# Altium integrated library Linear Technology Power Management LDO Linear Regulators.IntLib: 2339 symbols (part 73 of 131)
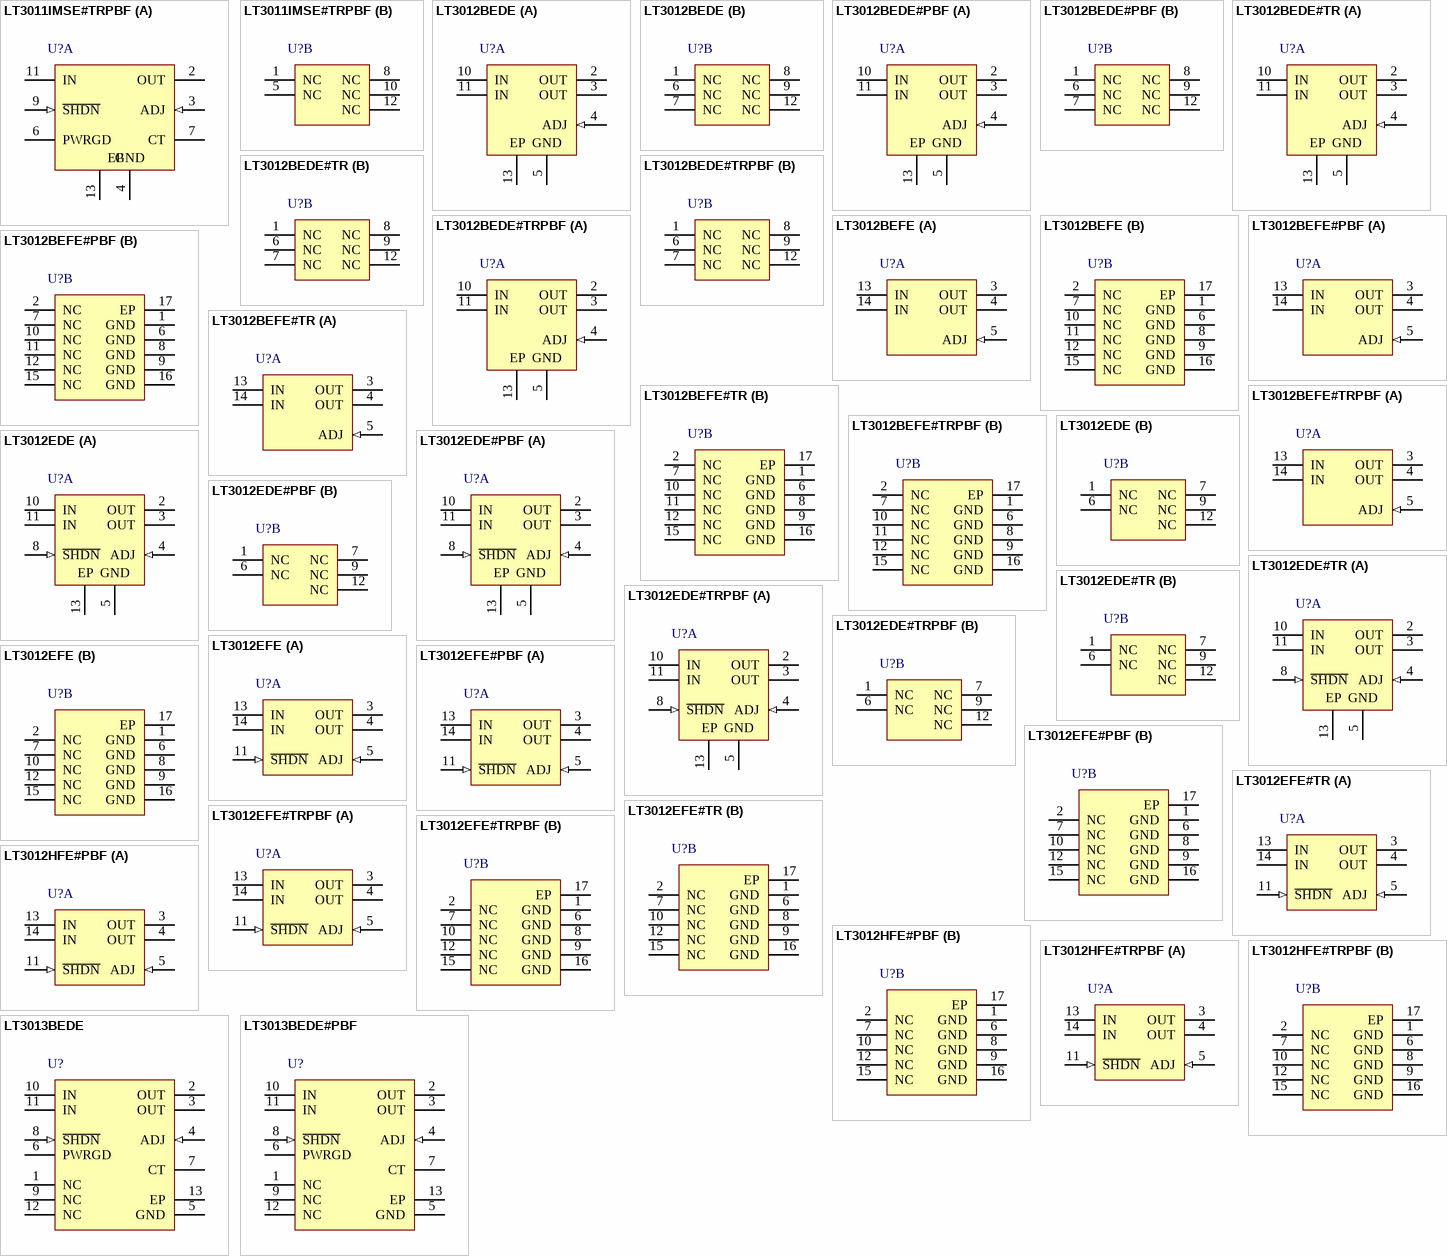
[diagram p141: symbols LT3011IMSE#TRPBF to LT3013BEDE#PBF]

## LT3012HFE#PBF
designator U?
250 mA, Low Dropout Micropower Linear Regulator, 4 to 80 V Vin, Adjustable Vout, 16-pin SOP (FE-16-EPV-BB), -40 to 140 degC, Pb-Free; Manufacturer: Linear Technology; PartNumber: LT3012HFE#PBF; Discrete Pass Element: no; Dropout Voltage(V): 0.4; Iout(mA): 250; Isupply(mA): 0.04; Noise(uV): 100; Number of Outputs: 1; Output Voltage: Adj; PSRR(dB): 75; Vin Max(V): 80; Vin Min(V): 4; Vout Max(V): 60; Vout Min(V): 1.24; DatasheetVersion: Rev. D; PackageVersion: Rev. J, 11/2012; PackageReference: FE-16; PackageDescription: 16-Pin Plastic TSSOP, Body 5 x 4.4 mm, Pitch 0.65 mm; Supplier 1: Digi-Key; Supplier Part Number 1: LT3012HFE#PBF-ND; Supplier 2: Newark; Supplier Part Number 2: 57M7866; RoHS: TRUE; Shutdown Current(uA): 1; Mounting Technology: Surface Mount; ComponentLink1Description: Manufacturer URL; ComponentLink1URL: http://www.linear.com/; ComponentLink2Description: Datasheet; ComponentLink2URL: http://cds.linear.com/docs/en/datasheet/3012fd.pdf; ComponentLink3Description: Package Specification; ComponentLink3URL: http://cds.linear.com/docs/en/packaging/05081663__J_FE16(BB).pdf
footprint LT-FE-16-EPV-BB_N (SOP, 16-Leads, Body 5.1x4.5mm, Pitch 0.65mm, Thermal Pad 3.58x2.94mm, IPC Medium Density)
footprint LT-FE-16-EPV-BB_L (SOP, 16-Leads, Body 5.1x4.5mm, Pitch 0.65mm, Thermal Pad 3.58x2.94mm, IPC High Density)
footprint LT-FE-16-EPV-BB_M (SOP, 16-Leads, Body 5.1x4.5mm, Pitch 0.65mm, Thermal Pad 3.58x2.94mm, IPC Low Density)
part A pins: 3 OUT (power) "Output.The output supplies power to the load. A minimum output capacitor of 3.3uF is required to prevent oscillations. Larger output capacitors will be required for applications with large transient loads to limit peak (See Datasheet)", 4 OUT (power) "Output.The output supplies power to the load. A minimum output capacitor of 3.3uF is required to prevent oscillations. Larger output capacitors will be required for applications with large transient loads to limit peak (See Datasheet)", 5 ADJ (in) "Adjust. This is the input to the error amplifier. This pin is internally clamped to +/-7V. It has a bias current of 30nA which flows into the pin (see curve of ADJ Pin Bias Current vs Temperature in the Typical Performance (See Datasheet)", 11 ~{SHDN} (in) "Shutdown. The S\H\D\N\ pin is used to put the LT3012 into a low power shutdown state. The output will be off when the S\H\D\N\ pin is pulled low. The S\H\D\N\ pin can be driven either by 5V logic or open-collector logic with (See Datasheet)", 13 IN (power) "Input. Power is supplied to the device through the IN pin. A bypass capacitor is required on this pin if the device is more than six inches away from the main input filter capacitor. In general, the output impedance of a (See Datasheet)", 14 IN (power) "Input. Power is supplied to the device through the IN pin. A bypass capacitor is required on this pin if the device is more than six inches away from the main input filter capacitor. In general, the output impedance of a (See Datasheet)"
part B pins: 1 GND (power) "Ground. The exposed backside of the package is an electrical connection for GND. As such, to ensure optimum device operation and thermal performance, the exposed pad must be connected directly to pin 5/pin 6 on the PC board.", 2 NC "No Connect. These pins have no internal connection; connecting NC pins to a copper area for heat dissipation provides a small improvement in thermal performance.", 6 GND (power) "Ground. The exposed backside of the package is an electrical connection for GND. As such, to ensure optimum device operation and thermal performance, the exposed pad must be connected directly to pin 5/pin 6 on the PC board.", 7 NC "No Connect. These pins have no internal connection; connecting NC pins to a copper area for heat dissipation provides a small improvement in thermal performance.", 8 GND (power) "Ground. The exposed backside of the package is an electrical connection for GND. As such, to ensure optimum device operation and thermal performance, the exposed pad must be connected directly to pin 5/pin 6 on the PC board.", 9 GND (power) "Ground. The exposed backside of the package is an electrical connection for GND. As such, to ensure optimum device operation and thermal performance, the exposed pad must be connected directly to pin 5/pin 6 on the PC board.", 10 NC "No Connect. These pins have no internal connection; connecting NC pins to a copper area for heat dissipation provides a small improvement in thermal performance.", 12 NC "No Connect. These pins have no internal connection; connecting NC pins to a copper area for heat dissipation provides a small improvement in thermal performance.", 15 NC "No Connect. These pins have no internal connection; connecting NC pins to a copper area for heat dissipation provides a small improvement in thermal performance.", 16 GND (power) "Ground. The exposed backside of the package is an electrical connection for GND. As such, to ensure optimum device operation and thermal performance, the exposed pad must be connected directly to pin 5/pin 6 on the PC board.", 17 EP (power) "Ground. The exposed backside of the package is an electrical connection for GND. As such, to ensure optimum device operation and thermal performance, the exposed pad must be connected directly to pin 5/pin 6 on the PC board."

## LT3012HFE#TRPBF
designator U?
250 mA, Low Dropout Micropower Linear Regulator, 4 to 80 V Vin, Adjustable Vout, 16-pin SOP (FE-16-EPV-BB), -40 to 140 degC, Pb-Free, Tape and Reel; Manufacturer: Linear Technology; PartNumber: LT3012HFE#TRPBF; Discrete Pass Element: no; Dropout Voltage(V): 0.4; Iout(mA): 250; Isupply(mA): 0.04; Noise(uV): 100; Number of Outputs: 1; Output Voltage: Adj; PSRR(dB): 75; Vin Max(V): 80; Vin Min(V): 4; Vout Max(V): 60; Vout Min(V): 1.24; DatasheetVersion: Rev. D; PackageVersion: Rev. J, 11/2012; PackageReference: FE-16; PackageDescription: 16-Pin Plastic TSSOP, Body 5 x 4.4 mm, Pitch 0.65 mm; Supplier 1: Digi-Key; Supplier Part Number 1: LT3012HFE#TRPBF-ND; Supplier 2: Newark; Supplier Part Number 2: 57M7867; Packing: Tape and Reel; RoHS: TRUE; Shutdown Current(uA): 1; Mounting Technology: Surface Mount; ComponentLink1Description: Manufacturer URL; ComponentLink1URL: http://www.linear.com/; ComponentLink2Description: Datasheet; ComponentLink2URL: http://cds.linear.com/docs/en/datasheet/3012fd.pdf; ComponentLink3Description: Package Specification; ComponentLink3URL: http://cds.linear.com/docs/en/packaging/05081663__J_FE16(BB).pdf
footprint LT-FE-16-EPV-BB_N (SOP, 16-Leads, Body 5.1x4.5mm, Pitch 0.65mm, Thermal Pad 3.58x2.94mm, IPC Medium Density)
footprint LT-FE-16-EPV-BB_L (SOP, 16-Leads, Body 5.1x4.5mm, Pitch 0.65mm, Thermal Pad 3.58x2.94mm, IPC High Density)
footprint LT-FE-16-EPV-BB_M (SOP, 16-Leads, Body 5.1x4.5mm, Pitch 0.65mm, Thermal Pad 3.58x2.94mm, IPC Low Density)
part A pins: 3 OUT (power) "Output.The output supplies power to the load. A minimum output capacitor of 3.3uF is required to prevent oscillations. Larger output capacitors will be required for applications with large transient loads to limit peak (See Datasheet)", 4 OUT (power) "Output.The output supplies power to the load. A minimum output capacitor of 3.3uF is required to prevent oscillations. Larger output capacitors will be required for applications with large transient loads to limit peak (See Datasheet)", 5 ADJ (in) "Adjust. This is the input to the error amplifier. This pin is internally clamped to +/-7V. It has a bias current of 30nA which flows into the pin (see curve of ADJ Pin Bias Current vs Temperature in the Typical Performance (See Datasheet)", 11 ~{SHDN} (in) "Shutdown. The S\H\D\N\ pin is used to put the LT3012 into a low power shutdown state. The output will be off when the S\H\D\N\ pin is pulled low. The S\H\D\N\ pin can be driven either by 5V logic or open-collector logic with (See Datasheet)", 13 IN (power) "Input. Power is supplied to the device through the IN pin. A bypass capacitor is required on this pin if the device is more than six inches away from the main input filter capacitor. In general, the output impedance of a (See Datasheet)", 14 IN (power) "Input. Power is supplied to the device through the IN pin. A bypass capacitor is required on this pin if the device is more than six inches away from the main input filter capacitor. In general, the output impedance of a (See Datasheet)"
part B pins: 1 GND (power) "Ground. The exposed backside of the package is an electrical connection for GND. As such, to ensure optimum device operation and thermal performance, the exposed pad must be connected directly to pin 5/pin 6 on the PC board.", 2 NC "No Connect. These pins have no internal connection; connecting NC pins to a copper area for heat dissipation provides a small improvement in thermal performance.", 6 GND (power) "Ground. The exposed backside of the package is an electrical connection for GND. As such, to ensure optimum device operation and thermal performance, the exposed pad must be connected directly to pin 5/pin 6 on the PC board.", 7 NC "No Connect. These pins have no internal connection; connecting NC pins to a copper area for heat dissipation provides a small improvement in thermal performance.", 8 GND (power) "Ground. The exposed backside of the package is an electrical connection for GND. As such, to ensure optimum device operation and thermal performance, the exposed pad must be connected directly to pin 5/pin 6 on the PC board.", 9 GND (power) "Ground. The exposed backside of the package is an electrical connection for GND. As such, to ensure optimum device operation and thermal performance, the exposed pad must be connected directly to pin 5/pin 6 on the PC board.", 10 NC "No Connect. These pins have no internal connection; connecting NC pins to a copper area for heat dissipation provides a small improvement in thermal performance.", 12 NC "No Connect. These pins have no internal connection; connecting NC pins to a copper area for heat dissipation provides a small improvement in thermal performance.", 15 NC "No Connect. These pins have no internal connection; connecting NC pins to a copper area for heat dissipation provides a small improvement in thermal performance.", 16 GND (power) "Ground. The exposed backside of the package is an electrical connection for GND. As such, to ensure optimum device operation and thermal performance, the exposed pad must be connected directly to pin 5/pin 6 on the PC board.", 17 EP (power) "Ground. The exposed backside of the package is an electrical connection for GND. As such, to ensure optimum device operation and thermal performance, the exposed pad must be connected directly to pin 5/pin 6 on the PC board."

## LT3013BEDE
designator U?
250 mA, Low Dropout Micropower Linear Regulator with PWRGD, 4 to 80 V Vin, Adjustable Vout, 12-pin SON (DE-UE-12), -40 to 125 degC; Manufacturer: Linear Technology; PartNumber: LT3013BEDE; Discrete Pass Element: no; Dropout Voltage(V): 0.4; Iout(mA): 250; Isupply(mA): 0.065; Noise(uV): 100; Number of Outputs: 1; Output Voltage: Adj; PSRR(dB): 75; Vin Max(V): 80; Vin Min(V): 4; Vout Max(V): 60; Vout Min(V): 1.24; DatasheetVersion: Rev. E; PackageVersion: Rev. D, 06/2010; PackageReference: DE-UE-12; PackageDescription: 12-Pin Plastic DFN, Body 4 x 3 mm, Pitch 0.5 mm; RoHS: FALSE; Shutdown Current(uA): 1; Mounting Technology: Surface Mount; Code_JEDEC: MO-229; ComponentLink1Description: Manufacturer URL; ComponentLink1URL: http://www.linear.com/; ComponentLink2Description: Datasheet; ComponentLink2URL: http://cds.linear.com/docs/en/datasheet/3013fe.pdf; ComponentLink3Description: Package Specification; ComponentLink3URL: http://cds.linear.com/docs/en/packaging/DFN_12_05-08-1695.pdf
footprint LT-DE-UE-12_V (SON, 12-Leads, Body 4x3mm, Pitch 0.5mm, Thermal Pad 3.3x1.7mm)
pins: 1 NC "No Connect. These pins have no internal connection; connecting NC pins to a copper area for heat dissipation provides a small improvement in thermal performance.", 2 OUT (power) "Output. The output supplies power to the load. A minimum output capacitor of 3.3uF is required to prevent oscillations. Larger output capacitors will be required for applications with large transient loads to limit peak (See Datasheet)", 3 OUT (power) "Output. The output supplies power to the load. A minimum output capacitor of 3.3uF is required to prevent oscillations. Larger output capacitors will be required for applications with large transient loads to limit peak (See Datasheet)", 4 ADJ (in) "Adjust. This is the input to the error amplifier. This pin is internally clamped to +/-7V. It has a bias current of 30nA which fl ows into the pin (see curve of ADJ Pin Bias Current vs Temperature in the Typical Performance (See Datasheet)", 5 GND (power) "Ground. The exposed backside of the package is an electrical connection for GND. As such, to ensure optimum device operation and thermal performance, the exposed pad must be connected directly to Pin 5/Pin 6 on the PC board.", 6 PWRGD (hiz) "Power Good. The PWRGD flag is an open collector flag to indicate that the output voltage has come up to above 90% of the nominal output voltage. There is no internal pull-up on this pin; a pull-up resistor must be used. The (See Datasheet)", 7 CT "Timing Capacitor. The CT pin allows the use of a small capacitor to delay the timing between the point where the output crosses the PWRGD threshold and the PWRGD flag changes to a high impedance state. Current out of this (See Datasheet)", 8 ~{SHDN} (in) "Shutdown. The S\H\D\N\ pin is used to put the LT3013 into a low power shutdown state. The output will be off when the S\H\D\N\ pin is pulled low. The S\H\D\N\ pin can be driven either by 5V logic or open-collector logic with (See Datasheet)", 9 NC "No Connect. These pins have no internal connection; connecting NC pins to a copper area for heat dissipation provides a small improvement in thermal performance.", 10 IN (power) "Input. Power is supplied to the device through the IN pin. A bypass capacitor is required on this pin if the device is more than six inches away from the main input filter capacitor. In general, the output impedance of a (See Datasheet)", 11 IN (power) "Input. Power is supplied to the device through the IN pin. A bypass capacitor is required on this pin if the device is more than six inches away from the main input filter capacitor. In general, the output impedance of a (See Datasheet)", 12 NC "No Connect. These pins have no internal connection; connecting NC pins to a copper area for heat dissipation provides a small improvement in thermal performance.", 13 EP (power) "Ground. The exposed backside of the package is an electrical connection for GND. As such, to ensure optimum device operation and thermal performance, the exposed pad must be connected directly to Pin 5/Pin 6 on the PC board."

## LT3013BEDE#PBF
designator U?
250 mA, Low Dropout Micropower Linear Regulator with PWRGD, 4 to 80 V Vin, Adjustable Vout, 12-pin SON (DE-UE-12), -40 to 125 degC, Pb-Free; Manufacturer: Linear Technology; PartNumber: LT3013BEDE#PBF; Discrete Pass Element: no; Dropout Voltage(V): 0.4; Iout(mA): 250; Isupply(mA): 0.065; Noise(uV): 100; Number of Outputs: 1; Output Voltage: Adj; PSRR(dB): 75; Vin Max(V): 80; Vin Min(V): 4; Vout Max(V): 60; Vout Min(V): 1.24; DatasheetVersion: Rev. E; PackageVersion: Rev. D, 06/2010; PackageReference: DE-UE-12; PackageDescription: 12-Pin Plastic DFN, Body 4 x 3 mm, Pitch 0.5 mm; Supplier 1: Digi-Key; Supplier Part Number 1: LT3013BEDE#PBF-ND; RoHS: TRUE; Shutdown Current(uA): 1; Mounting Technology: Surface Mount; Code_JEDEC: MO-229; ComponentLink1Description: Manufacturer URL; ComponentLink1URL: http://www.linear.com/; ComponentLink2Description: Datasheet; ComponentLink2URL: http://cds.linear.com/docs/en/datasheet/3013fe.pdf; ComponentLink3Description: Package Specification; ComponentLink3URL: http://cds.linear.com/docs/en/packaging/DFN_12_05-08-1695.pdf
footprint LT-DE-UE-12_V (SON, 12-Leads, Body 4x3mm, Pitch 0.5mm, Thermal Pad 3.3x1.7mm)
pins: 1 NC "No Connect. These pins have no internal connection; connecting NC pins to a copper area for heat dissipation provides a small improvement in thermal performance.", 2 OUT (power) "Output. The output supplies power to the load. A minimum output capacitor of 3.3uF is required to prevent oscillations. Larger output capacitors will be required for applications with large transient loads to limit peak (See Datasheet)", 3 OUT (power) "Output. The output supplies power to the load. A minimum output capacitor of 3.3uF is required to prevent oscillations. Larger output capacitors will be required for applications with large transient loads to limit peak (See Datasheet)", 4 ADJ (in) "Adjust. This is the input to the error amplifier. This pin is internally clamped to +/-7V. It has a bias current of 30nA which fl ows into the pin (see curve of ADJ Pin Bias Current vs Temperature in the Typical Performance (See Datasheet)", 5 GND (power) "Ground. The exposed backside of the package is an electrical connection for GND. As such, to ensure optimum device operation and thermal performance, the exposed pad must be connected directly to Pin 5/Pin 6 on the PC board.", 6 PWRGD (hiz) "Power Good. The PWRGD flag is an open collector flag to indicate that the output voltage has come up to above 90% of the nominal output voltage. There is no internal pull-up on this pin; a pull-up resistor must be used. The (See Datasheet)", 7 CT "Timing Capacitor. The CT pin allows the use of a small capacitor to delay the timing between the point where the output crosses the PWRGD threshold and the PWRGD flag changes to a high impedance state. Current out of this (See Datasheet)", 8 ~{SHDN} (in) "Shutdown. The S\H\D\N\ pin is used to put the LT3013 into a low power shutdown state. The output will be off when the S\H\D\N\ pin is pulled low. The S\H\D\N\ pin can be driven either by 5V logic or open-collector logic with (See Datasheet)", 9 NC "No Connect. These pins have no internal connection; connecting NC pins to a copper area for heat dissipation provides a small improvement in thermal performance.", 10 IN (power) "Input. Power is supplied to the device through the IN pin. A bypass capacitor is required on this pin if the device is more than six inches away from the main input filter capacitor. In general, the output impedance of a (See Datasheet)", 11 IN (power) "Input. Power is supplied to the device through the IN pin. A bypass capacitor is required on this pin if the device is more than six inches away from the main input filter capacitor. In general, the output impedance of a (See Datasheet)", 12 NC "No Connect. These pins have no internal connection; connecting NC pins to a copper area for heat dissipation provides a small improvement in thermal performance.", 13 EP (power) "Ground. The exposed backside of the package is an electrical connection for GND. As such, to ensure optimum device operation and thermal performance, the exposed pad must be connected directly to Pin 5/Pin 6 on the PC board."

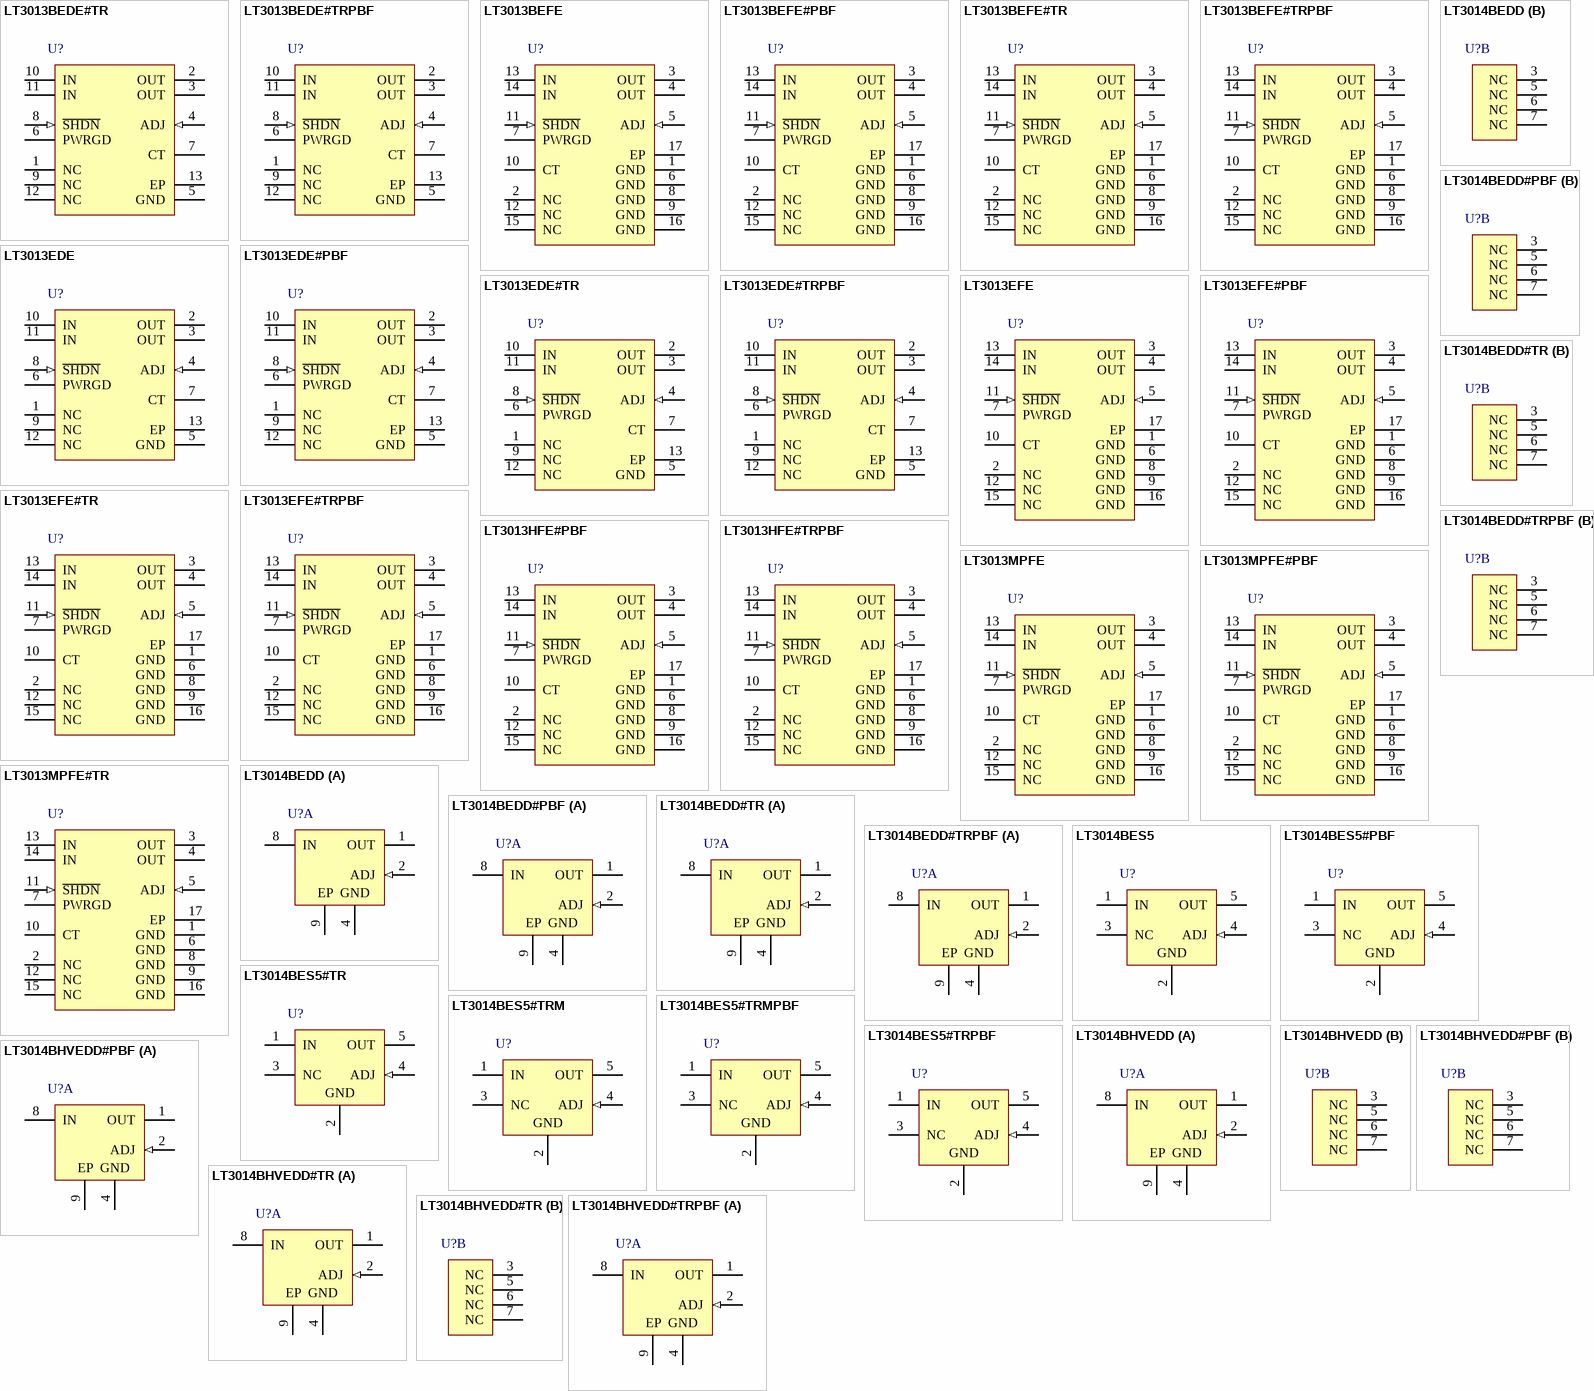
[diagram p45: symbols LT3013BEDE#TR to LT3014BHVEDD#TRPBF]

## LT3013BEDE#TR
designator U?
250 mA, Low Dropout Micropower Linear Regulator with PWRGD, 4 to 80 V Vin, Adjustable Vout, 12-pin SON (DE-UE-12), -40 to 125 degC, Tape and Reel; Manufacturer: Linear Technology; PartNumber: LT3013BEDE#TR; Discrete Pass Element: no; Dropout Voltage(V): 0.4; Iout(mA): 250; Isupply(mA): 0.065; Noise(uV): 100; Number of Outputs: 1; Output Voltage: Adj; PSRR(dB): 75; Vin Max(V): 80; Vin Min(V): 4; Vout Max(V): 60; Vout Min(V): 1.24; DatasheetVersion: Rev. E; PackageVersion: Rev. D, 06/2010; PackageReference: DE-UE-12; PackageDescription: 12-Pin Plastic DFN, Body 4 x 3 mm, Pitch 0.5 mm; Packing: Tape and Reel; RoHS: FALSE; Shutdown Current(uA): 1; Mounting Technology: Surface Mount; Code_JEDEC: MO-229; ComponentLink1Description: Manufacturer URL; ComponentLink1URL: http://www.linear.com/; ComponentLink2Description: Datasheet; ComponentLink2URL: http://cds.linear.com/docs/en/datasheet/3013fe.pdf; ComponentLink3Description: Package Specification; ComponentLink3URL: http://cds.linear.com/docs/en/packaging/DFN_12_05-08-1695.pdf
footprint LT-DE-UE-12_V (SON, 12-Leads, Body 4x3mm, Pitch 0.5mm, Thermal Pad 3.3x1.7mm)
pins: 1 NC "No Connect. These pins have no internal connection; connecting NC pins to a copper area for heat dissipation provides a small improvement in thermal performance.", 2 OUT (power) "Output. The output supplies power to the load. A minimum output capacitor of 3.3uF is required to prevent oscillations. Larger output capacitors will be required for applications with large transient loads to limit peak (See Datasheet)", 3 OUT (power) "Output. The output supplies power to the load. A minimum output capacitor of 3.3uF is required to prevent oscillations. Larger output capacitors will be required for applications with large transient loads to limit peak (See Datasheet)", 4 ADJ (in) "Adjust. This is the input to the error amplifier. This pin is internally clamped to +/-7V. It has a bias current of 30nA which fl ows into the pin (see curve of ADJ Pin Bias Current vs Temperature in the Typical Performance (See Datasheet)", 5 GND (power) "Ground. The exposed backside of the package is an electrical connection for GND. As such, to ensure optimum device operation and thermal performance, the exposed pad must be connected directly to Pin 5/Pin 6 on the PC board.", 6 PWRGD (hiz) "Power Good. The PWRGD flag is an open collector flag to indicate that the output voltage has come up to above 90% of the nominal output voltage. There is no internal pull-up on this pin; a pull-up resistor must be used. The (See Datasheet)", 7 CT "Timing Capacitor. The CT pin allows the use of a small capacitor to delay the timing between the point where the output crosses the PWRGD threshold and the PWRGD flag changes to a high impedance state. Current out of this (See Datasheet)", 8 ~{SHDN} (in) "Shutdown. The S\H\D\N\ pin is used to put the LT3013 into a low power shutdown state. The output will be off when the S\H\D\N\ pin is pulled low. The S\H\D\N\ pin can be driven either by 5V logic or open-collector logic with (See Datasheet)", 9 NC "No Connect. These pins have no internal connection; connecting NC pins to a copper area for heat dissipation provides a small improvement in thermal performance.", 10 IN (power) "Input. Power is supplied to the device through the IN pin. A bypass capacitor is required on this pin if the device is more than six inches away from the main input filter capacitor. In general, the output impedance of a (See Datasheet)", 11 IN (power) "Input. Power is supplied to the device through the IN pin. A bypass capacitor is required on this pin if the device is more than six inches away from the main input filter capacitor. In general, the output impedance of a (See Datasheet)", 12 NC "No Connect. These pins have no internal connection; connecting NC pins to a copper area for heat dissipation provides a small improvement in thermal performance.", 13 EP (power) "Ground. The exposed backside of the package is an electrical connection for GND. As such, to ensure optimum device operation and thermal performance, the exposed pad must be connected directly to Pin 5/Pin 6 on the PC board."

## LT3013BEDE#TRPBF
designator U?
250 mA, Low Dropout Micropower Linear Regulator with PWRGD, 4 to 80 V Vin, Adjustable Vout, 12-pin SON (DE-UE-12), -40 to 125 degC, Pb-Free, Tape and Reel; Manufacturer: Linear Technology; PartNumber: LT3013BEDE#TRPBF; Discrete Pass Element: no; Dropout Voltage(V): 0.4; Iout(mA): 250; Isupply(mA): 0.065; Noise(uV): 100; Number of Outputs: 1; Output Voltage: Adj; PSRR(dB): 75; Vin Max(V): 80; Vin Min(V): 4; Vout Max(V): 60; Vout Min(V): 1.24; DatasheetVersion: Rev. E; PackageVersion: Rev. D, 06/2010; PackageReference: DE-UE-12; PackageDescription: 12-Pin Plastic DFN, Body 4 x 3 mm, Pitch 0.5 mm; Supplier 1: Digi-Key; Supplier Part Number 1: LT3013BEDE#TRPBF-ND; Packing: Tape and Reel; RoHS: TRUE; Shutdown Current(uA): 1; Mounting Technology: Surface Mount; Code_JEDEC: MO-229; ComponentLink1Description: Manufacturer URL; ComponentLink1URL: http://www.linear.com/; ComponentLink2Description: Datasheet; ComponentLink2URL: http://cds.linear.com/docs/en/datasheet/3013fe.pdf; ComponentLink3Description: Package Specification; ComponentLink3URL: http://cds.linear.com/docs/en/packaging/DFN_12_05-08-1695.pdf
footprint LT-DE-UE-12_V (SON, 12-Leads, Body 4x3mm, Pitch 0.5mm, Thermal Pad 3.3x1.7mm)
pins: 1 NC "No Connect. These pins have no internal connection; connecting NC pins to a copper area for heat dissipation provides a small improvement in thermal performance.", 2 OUT (power) "Output. The output supplies power to the load. A minimum output capacitor of 3.3uF is required to prevent oscillations. Larger output capacitors will be required for applications with large transient loads to limit peak (See Datasheet)", 3 OUT (power) "Output. The output supplies power to the load. A minimum output capacitor of 3.3uF is required to prevent oscillations. Larger output capacitors will be required for applications with large transient loads to limit peak (See Datasheet)", 4 ADJ (in) "Adjust. This is the input to the error amplifier. This pin is internally clamped to +/-7V. It has a bias current of 30nA which fl ows into the pin (see curve of ADJ Pin Bias Current vs Temperature in the Typical Performance (See Datasheet)", 5 GND (power) "Ground. The exposed backside of the package is an electrical connection for GND. As such, to ensure optimum device operation and thermal performance, the exposed pad must be connected directly to Pin 5/Pin 6 on the PC board.", 6 PWRGD (hiz) "Power Good. The PWRGD flag is an open collector flag to indicate that the output voltage has come up to above 90% of the nominal output voltage. There is no internal pull-up on this pin; a pull-up resistor must be used. The (See Datasheet)", 7 CT "Timing Capacitor. The CT pin allows the use of a small capacitor to delay the timing between the point where the output crosses the PWRGD threshold and the PWRGD flag changes to a high impedance state. Current out of this (See Datasheet)", 8 ~{SHDN} (in) "Shutdown. The S\H\D\N\ pin is used to put the LT3013 into a low power shutdown state. The output will be off when the S\H\D\N\ pin is pulled low. The S\H\D\N\ pin can be driven either by 5V logic or open-collector logic with (See Datasheet)", 9 NC "No Connect. These pins have no internal connection; connecting NC pins to a copper area for heat dissipation provides a small improvement in thermal performance.", 10 IN (power) "Input. Power is supplied to the device through the IN pin. A bypass capacitor is required on this pin if the device is more than six inches away from the main input filter capacitor. In general, the output impedance of a (See Datasheet)", 11 IN (power) "Input. Power is supplied to the device through the IN pin. A bypass capacitor is required on this pin if the device is more than six inches away from the main input filter capacitor. In general, the output impedance of a (See Datasheet)", 12 NC "No Connect. These pins have no internal connection; connecting NC pins to a copper area for heat dissipation provides a small improvement in thermal performance.", 13 EP (power) "Ground. The exposed backside of the package is an electrical connection for GND. As such, to ensure optimum device operation and thermal performance, the exposed pad must be connected directly to Pin 5/Pin 6 on the PC board."

## LT3013BEFE
designator U?
250 mA, Low Dropout Micropower Linear Regulator with PWRGD, 4 to 80 V Vin, Adjustable Vout, 16-pin SOP (FE-16-EPV-BB), -40 to 125 degC; Manufacturer: Linear Technology; PartNumber: LT3013BEFE; Discrete Pass Element: no; Dropout Voltage(V): 0.4; Iout(mA): 250; Isupply(mA): 0.065; Noise(uV): 100; Number of Outputs: 1; Output Voltage: Adj; PSRR(dB): 75; Vin Max(V): 80; Vin Min(V): 4; Vout Max(V): 60; Vout Min(V): 1.24; DatasheetVersion: Rev. E; PackageVersion: Rev. J, 11/2012; PackageReference: FE-16; PackageDescription: 16-Pin Plastic TSSOP, Body 5 x 4.4 mm, Pitch 0.65 mm; Supplier 1: Newark; Supplier Part Number 1: 57M7872; RoHS: FALSE; Shutdown Current(uA): 1; Mounting Technology: Surface Mount; ComponentLink1Description: Manufacturer URL; ComponentLink1URL: http://www.linear.com/; ComponentLink2Description: Datasheet; ComponentLink2URL: http://cds.linear.com/docs/en/datasheet/3013fe.pdf; ComponentLink3Description: Package Specification; ComponentLink3URL: http://cds.linear.com/docs/en/packaging/05081663__J_FE16(BB).pdf
footprint LT-FE-16-EPV-BB_N (SOP, 16-Leads, Body 5.1x4.5mm, Pitch 0.65mm, Thermal Pad 3.58x2.94mm, IPC Medium Density)
footprint LT-FE-16-EPV-BB_L (SOP, 16-Leads, Body 5.1x4.5mm, Pitch 0.65mm, Thermal Pad 3.58x2.94mm, IPC High Density)
footprint LT-FE-16-EPV-BB_M (SOP, 16-Leads, Body 5.1x4.5mm, Pitch 0.65mm, Thermal Pad 3.58x2.94mm, IPC Low Density)
pins: 1 GND (power) "Ground. The exposed backside of the package is an electrical connection for GND. As such, to ensure optimum device operation and thermal performance, the exposed pad must be connected directly to Pin 5/Pin 6 on the PC board.", 2 NC "No Connect. These pins have no internal connection; connecting NC pins to a copper area for heat dissipation provides a small improvement in thermal performance.", 3 OUT (power) "Output. The output supplies power to the load. A minimum output capacitor of 3.3uF is required to prevent oscillations. Larger output capacitors will be required for applications with large transient loads to limit peak (See Datasheet)", 4 OUT (power) "Output. The output supplies power to the load. A minimum output capacitor of 3.3uF is required to prevent oscillations. Larger output capacitors will be required for applications with large transient loads to limit peak (See Datasheet)", 5 ADJ (in) "Adjust. This is the input to the error amplifier. This pin is internally clamped to +/-7V. It has a bias current of 30nA which flows into the pin (see curve of ADJ Pin Bias Current vs Temperature in the Typical Performance (See Datasheet)", 6 GND (power) "Ground. The exposed backside of the package is an electrical connection for GND. As such, to ensure optimum device operation and thermal performance, the exposed pad must be connected directly to Pin 5/Pin 6 on the PC board.", 7 PWRGD (hiz) "Power Good. The PWRGD flag is an open collector flag to indicate that the output voltage has come up to above 90% of the nominal output voltage. There is no internal pull-up on this pin; a pull-up resistor must be used. The (See Datasheet)", 8 GND (power) "Ground. The exposed backside of the package is an electrical connection for GND. As such, to ensure optimum device operation and thermal performance, the exposed pad must be connected directly to Pin 5/Pin 6 on the PC board.", 9 GND (power) "Ground. The exposed backside of the package is an electrical connection for GND. As such, to ensure optimum device operation and thermal performance, the exposed pad must be connected directly to Pin 5/Pin 6 on the PC board.", 10 CT "Timing Capacitor. The CT pin allows the use of a small capacitor to delay the timing between the point where the output crosses the PWRGD threshold and the PWRGD flag changes to a high impedance state. Current out of this (See Datasheet)", 11 ~{SHDN} (in) "Shutdown. The S\H\D\N\ pin is used to put the LT3013 into a low power shutdown state. The output will be off when the S\H\D\N\ pin is pulled low. The S\H\D\N\ pin can be driven either by 5V logic or open-collector logic with (See Datasheet)", 12 NC "No Connect. These pins have no internal connection; connecting NC pins to a copper area for heat dissipation provides a small improvement in thermal performance.", 13 IN (power) "Input. Power is supplied to the device through the IN pin. A bypass capacitor is required on this pin if the device is more than six inches away from the main input filter capacitor. In general, the output impedance of a (See Datasheet)", 14 IN (power) "Input. Power is supplied to the device through the IN pin. A bypass capacitor is required on this pin if the device is more than six inches away from the main input filter capacitor. In general, the output impedance of a (See Datasheet)", 15 NC "No Connect. These pins have no internal connection; connecting NC pins to a copper area for heat dissipation provides a small improvement in thermal performance.", 16 GND (power) "Ground. The exposed backside of the package is an electrical connection for GND. As such, to ensure optimum device operation and thermal performance, the exposed pad must be connected directly to Pin 5/Pin 6 on the PC board.", 17 EP (power) "Ground. The exposed backside of the package is an electrical connection for GND. As such, to ensure optimum device operation and thermal performance, the exposed pad must be connected directly to Pin 5/Pin 6 on the PC board."

## LT3013BEFE#PBF
designator U?
250 mA, Low Dropout Micropower Linear Regulator with PWRGD, 4 to 80 V Vin, Adjustable Vout, 16-pin SOP (FE-16-EPV-BB), -40 to 125 degC, Pb-Free; Manufacturer: Linear Technology; PartNumber: LT3013BEFE#PBF; Discrete Pass Element: no; Dropout Voltage(V): 0.4; Iout(mA): 250; Isupply(mA): 0.065; Noise(uV): 100; Number of Outputs: 1; Output Voltage: Adj; PSRR(dB): 75; Vin Max(V): 80; Vin Min(V): 4; Vout Max(V): 60; Vout Min(V): 1.24; DatasheetVersion: Rev. E; PackageVersion: Rev. J, 11/2012; PackageReference: FE-16; PackageDescription: 16-Pin Plastic TSSOP, Body 5 x 4.4 mm, Pitch 0.65 mm; Supplier 1: Digi-Key; Supplier Part Number 1: LT3013BEFE#PBF-ND; Supplier 2: Newark; Supplier Part Number 2: 57M7873; RoHS: TRUE; Shutdown Current(uA): 1; Mounting Technology: Surface Mount; ComponentLink1Description: Manufacturer URL; ComponentLink1URL: http://www.linear.com/; ComponentLink2Description: Datasheet; ComponentLink2URL: http://cds.linear.com/docs/en/datasheet/3013fe.pdf; ComponentLink3Description: Package Specification; ComponentLink3URL: http://cds.linear.com/docs/en/packaging/05081663__J_FE16(BB).pdf
footprint LT-FE-16-EPV-BB_N (SOP, 16-Leads, Body 5.1x4.5mm, Pitch 0.65mm, Thermal Pad 3.58x2.94mm, IPC Medium Density)
footprint LT-FE-16-EPV-BB_L (SOP, 16-Leads, Body 5.1x4.5mm, Pitch 0.65mm, Thermal Pad 3.58x2.94mm, IPC High Density)
footprint LT-FE-16-EPV-BB_M (SOP, 16-Leads, Body 5.1x4.5mm, Pitch 0.65mm, Thermal Pad 3.58x2.94mm, IPC Low Density)
pins: 1 GND (power) "Ground. The exposed backside of the package is an electrical connection for GND. As such, to ensure optimum device operation and thermal performance, the exposed pad must be connected directly to Pin 5/Pin 6 on the PC board.", 2 NC "No Connect. These pins have no internal connection; connecting NC pins to a copper area for heat dissipation provides a small improvement in thermal performance.", 3 OUT (power) "Output. The output supplies power to the load. A minimum output capacitor of 3.3uF is required to prevent oscillations. Larger output capacitors will be required for applications with large transient loads to limit peak (See Datasheet)", 4 OUT (power) "Output. The output supplies power to the load. A minimum output capacitor of 3.3uF is required to prevent oscillations. Larger output capacitors will be required for applications with large transient loads to limit peak (See Datasheet)", 5 ADJ (in) "Adjust. This is the input to the error amplifier. This pin is internally clamped to +/-7V. It has a bias current of 30nA which flows into the pin (see curve of ADJ Pin Bias Current vs Temperature in the Typical Performance (See Datasheet)", 6 GND (power) "Ground. The exposed backside of the package is an electrical connection for GND. As such, to ensure optimum device operation and thermal performance, the exposed pad must be connected directly to Pin 5/Pin 6 on the PC board.", 7 PWRGD (hiz) "Power Good. The PWRGD flag is an open collector flag to indicate that the output voltage has come up to above 90% of the nominal output voltage. There is no internal pull-up on this pin; a pull-up resistor must be used. The (See Datasheet)", 8 GND (power) "Ground. The exposed backside of the package is an electrical connection for GND. As such, to ensure optimum device operation and thermal performance, the exposed pad must be connected directly to Pin 5/Pin 6 on the PC board.", 9 GND (power) "Ground. The exposed backside of the package is an electrical connection for GND. As such, to ensure optimum device operation and thermal performance, the exposed pad must be connected directly to Pin 5/Pin 6 on the PC board.", 10 CT "Timing Capacitor. The CT pin allows the use of a small capacitor to delay the timing between the point where the output crosses the PWRGD threshold and the PWRGD flag changes to a high impedance state. Current out of this (See Datasheet)", 11 ~{SHDN} (in) "Shutdown. The S\H\D\N\ pin is used to put the LT3013 into a low power shutdown state. The output will be off when the S\H\D\N\ pin is pulled low. The S\H\D\N\ pin can be driven either by 5V logic or open-collector logic with (See Datasheet)", 12 NC "No Connect. These pins have no internal connection; connecting NC pins to a copper area for heat dissipation provides a small improvement in thermal performance.", 13 IN (power) "Input. Power is supplied to the device through the IN pin. A bypass capacitor is required on this pin if the device is more than six inches away from the main input filter capacitor. In general, the output impedance of a (See Datasheet)", 14 IN (power) "Input. Power is supplied to the device through the IN pin. A bypass capacitor is required on this pin if the device is more than six inches away from the main input filter capacitor. In general, the output impedance of a (See Datasheet)", 15 NC "No Connect. These pins have no internal connection; connecting NC pins to a copper area for heat dissipation provides a small improvement in thermal performance.", 16 GND (power) "Ground. The exposed backside of the package is an electrical connection for GND. As such, to ensure optimum device operation and thermal performance, the exposed pad must be connected directly to Pin 5/Pin 6 on the PC board.", 17 EP (power) "Ground. The exposed backside of the package is an electrical connection for GND. As such, to ensure optimum device operation and thermal performance, the exposed pad must be connected directly to Pin 5/Pin 6 on the PC board."

## LT3013BEFE#TR
designator U?
250 mA, Low Dropout Micropower Linear Regulator with PWRGD, 4 to 80 V Vin, Adjustable Vout, 16-pin SOP (FE-16-EPV-BB), -40 to 125 degC, Tape and Reel; Manufacturer: Linear Technology; PartNumber: LT3013BEFE#TR; Discrete Pass Element: no; Dropout Voltage(V): 0.4; Iout(mA): 250; Isupply(mA): 0.065; Noise(uV): 100; Number of Outputs: 1; Output Voltage: Adj; PSRR(dB): 75; Vin Max(V): 80; Vin Min(V): 4; Vout Max(V): 60; Vout Min(V): 1.24; DatasheetVersion: Rev. E; PackageVersion: Rev. J, 11/2012; PackageReference: FE-16; PackageDescription: 16-Pin Plastic TSSOP, Body 5 x 4.4 mm, Pitch 0.65 mm; Packing: Tape and Reel; RoHS: FALSE; Shutdown Current(uA): 1; Mounting Technology: Surface Mount; ComponentLink1Description: Manufacturer URL; ComponentLink1URL: http://www.linear.com/; ComponentLink2Description: Datasheet; ComponentLink2URL: http://cds.linear.com/docs/en/datasheet/3013fe.pdf; ComponentLink3Description: Package Specification; ComponentLink3URL: http://cds.linear.com/docs/en/packaging/05081663__J_FE16(BB).pdf
footprint LT-FE-16-EPV-BB_N (SOP, 16-Leads, Body 5.1x4.5mm, Pitch 0.65mm, Thermal Pad 3.58x2.94mm, IPC Medium Density)
footprint LT-FE-16-EPV-BB_L (SOP, 16-Leads, Body 5.1x4.5mm, Pitch 0.65mm, Thermal Pad 3.58x2.94mm, IPC High Density)
footprint LT-FE-16-EPV-BB_M (SOP, 16-Leads, Body 5.1x4.5mm, Pitch 0.65mm, Thermal Pad 3.58x2.94mm, IPC Low Density)
pins: 1 GND (power) "Ground. The exposed backside of the package is an electrical connection for GND. As such, to ensure optimum device operation and thermal performance, the exposed pad must be connected directly to Pin 5/Pin 6 on the PC board.", 2 NC "No Connect. These pins have no internal connection; connecting NC pins to a copper area for heat dissipation provides a small improvement in thermal performance.", 3 OUT (power) "Output. The output supplies power to the load. A minimum output capacitor of 3.3uF is required to prevent oscillations. Larger output capacitors will be required for applications with large transient loads to limit peak (See Datasheet)", 4 OUT (power) "Output. The output supplies power to the load. A minimum output capacitor of 3.3uF is required to prevent oscillations. Larger output capacitors will be required for applications with large transient loads to limit peak (See Datasheet)", 5 ADJ (in) "Adjust. This is the input to the error amplifier. This pin is internally clamped to +/-7V. It has a bias current of 30nA which flows into the pin (see curve of ADJ Pin Bias Current vs Temperature in the Typical Performance (See Datasheet)", 6 GND (power) "Ground. The exposed backside of the package is an electrical connection for GND. As such, to ensure optimum device operation and thermal performance, the exposed pad must be connected directly to Pin 5/Pin 6 on the PC board.", 7 PWRGD (hiz) "Power Good. The PWRGD flag is an open collector flag to indicate that the output voltage has come up to above 90% of the nominal output voltage. There is no internal pull-up on this pin; a pull-up resistor must be used. The (See Datasheet)", 8 GND (power) "Ground. The exposed backside of the package is an electrical connection for GND. As such, to ensure optimum device operation and thermal performance, the exposed pad must be connected directly to Pin 5/Pin 6 on the PC board.", 9 GND (power) "Ground. The exposed backside of the package is an electrical connection for GND. As such, to ensure optimum device operation and thermal performance, the exposed pad must be connected directly to Pin 5/Pin 6 on the PC board.", 10 CT "Timing Capacitor. The CT pin allows the use of a small capacitor to delay the timing between the point where the output crosses the PWRGD threshold and the PWRGD flag changes to a high impedance state. Current out of this (See Datasheet)", 11 ~{SHDN} (in) "Shutdown. The S\H\D\N\ pin is used to put the LT3013 into a low power shutdown state. The output will be off when the S\H\D\N\ pin is pulled low. The S\H\D\N\ pin can be driven either by 5V logic or open-collector logic with (See Datasheet)", 12 NC "No Connect. These pins have no internal connection; connecting NC pins to a copper area for heat dissipation provides a small improvement in thermal performance.", 13 IN (power) "Input. Power is supplied to the device through the IN pin. A bypass capacitor is required on this pin if the device is more than six inches away from the main input filter capacitor. In general, the output impedance of a (See Datasheet)", 14 IN (power) "Input. Power is supplied to the device through the IN pin. A bypass capacitor is required on this pin if the device is more than six inches away from the main input filter capacitor. In general, the output impedance of a (See Datasheet)", 15 NC "No Connect. These pins have no internal connection; connecting NC pins to a copper area for heat dissipation provides a small improvement in thermal performance.", 16 GND (power) "Ground. The exposed backside of the package is an electrical connection for GND. As such, to ensure optimum device operation and thermal performance, the exposed pad must be connected directly to Pin 5/Pin 6 on the PC board.", 17 EP (power) "Ground. The exposed backside of the package is an electrical connection for GND. As such, to ensure optimum device operation and thermal performance, the exposed pad must be connected directly to Pin 5/Pin 6 on the PC board."

## LT3013BEFE#TRPBF
designator U?
250 mA, Low Dropout Micropower Linear Regulator with PWRGD, 4 to 80 V Vin, Adjustable Vout, 16-pin SOP (FE-16-EPV-BB), -40 to 125 degC, Pb-Free, Tape and Reel; Manufacturer: Linear Technology; PartNumber: LT3013BEFE#TRPBF; Discrete Pass Element: no; Dropout Voltage(V): 0.4; Iout(mA): 250; Isupply(mA): 0.065; Noise(uV): 100; Number of Outputs: 1; Output Voltage: Adj; PSRR(dB): 75; Vin Max(V): 80; Vin Min(V): 4; Vout Max(V): 60; Vout Min(V): 1.24; DatasheetVersion: Rev. E; PackageVersion: Rev. J, 11/2012; PackageReference: FE-16; PackageDescription: 16-Pin Plastic TSSOP, Body 5 x 4.4 mm, Pitch 0.65 mm; Supplier 1: Digi-Key; Supplier Part Number 1: LT3013BEFE#TRPBF-ND; Packing: Tape and Reel; RoHS: TRUE; Shutdown Current(uA): 1; Mounting Technology: Surface Mount; ComponentLink1Description: Manufacturer URL; ComponentLink1URL: http://www.linear.com/; ComponentLink2Description: Datasheet; ComponentLink2URL: http://cds.linear.com/docs/en/datasheet/3013fe.pdf; ComponentLink3Description: Package Specification; ComponentLink3URL: http://cds.linear.com/docs/en/packaging/05081663__J_FE16(BB).pdf
footprint LT-FE-16-EPV-BB_N (SOP, 16-Leads, Body 5.1x4.5mm, Pitch 0.65mm, Thermal Pad 3.58x2.94mm, IPC Medium Density)
footprint LT-FE-16-EPV-BB_L (SOP, 16-Leads, Body 5.1x4.5mm, Pitch 0.65mm, Thermal Pad 3.58x2.94mm, IPC High Density)
footprint LT-FE-16-EPV-BB_M (SOP, 16-Leads, Body 5.1x4.5mm, Pitch 0.65mm, Thermal Pad 3.58x2.94mm, IPC Low Density)
pins: 1 GND (power) "Ground. The exposed backside of the package is an electrical connection for GND. As such, to ensure optimum device operation and thermal performance, the exposed pad must be connected directly to Pin 5/Pin 6 on the PC board.", 2 NC "No Connect. These pins have no internal connection; connecting NC pins to a copper area for heat dissipation provides a small improvement in thermal performance.", 3 OUT (power) "Output. The output supplies power to the load. A minimum output capacitor of 3.3uF is required to prevent oscillations. Larger output capacitors will be required for applications with large transient loads to limit peak (See Datasheet)", 4 OUT (power) "Output. The output supplies power to the load. A minimum output capacitor of 3.3uF is required to prevent oscillations. Larger output capacitors will be required for applications with large transient loads to limit peak (See Datasheet)", 5 ADJ (in) "Adjust. This is the input to the error amplifier. This pin is internally clamped to +/-7V. It has a bias current of 30nA which flows into the pin (see curve of ADJ Pin Bias Current vs Temperature in the Typical Performance (See Datasheet)", 6 GND (power) "Ground. The exposed backside of the package is an electrical connection for GND. As such, to ensure optimum device operation and thermal performance, the exposed pad must be connected directly to Pin 5/Pin 6 on the PC board.", 7 PWRGD (hiz) "Power Good. The PWRGD flag is an open collector flag to indicate that the output voltage has come up to above 90% of the nominal output voltage. There is no internal pull-up on this pin; a pull-up resistor must be used. The (See Datasheet)", 8 GND (power) "Ground. The exposed backside of the package is an electrical connection for GND. As such, to ensure optimum device operation and thermal performance, the exposed pad must be connected directly to Pin 5/Pin 6 on the PC board.", 9 GND (power) "Ground. The exposed backside of the package is an electrical connection for GND. As such, to ensure optimum device operation and thermal performance, the exposed pad must be connected directly to Pin 5/Pin 6 on the PC board.", 10 CT "Timing Capacitor. The CT pin allows the use of a small capacitor to delay the timing between the point where the output crosses the PWRGD threshold and the PWRGD flag changes to a high impedance state. Current out of this (See Datasheet)", 11 ~{SHDN} (in) "Shutdown. The S\H\D\N\ pin is used to put the LT3013 into a low power shutdown state. The output will be off when the S\H\D\N\ pin is pulled low. The S\H\D\N\ pin can be driven either by 5V logic or open-collector logic with (See Datasheet)", 12 NC "No Connect. These pins have no internal connection; connecting NC pins to a copper area for heat dissipation provides a small improvement in thermal performance.", 13 IN (power) "Input. Power is supplied to the device through the IN pin. A bypass capacitor is required on this pin if the device is more than six inches away from the main input filter capacitor. In general, the output impedance of a (See Datasheet)", 14 IN (power) "Input. Power is supplied to the device through the IN pin. A bypass capacitor is required on this pin if the device is more than six inches away from the main input filter capacitor. In general, the output impedance of a (See Datasheet)", 15 NC "No Connect. These pins have no internal connection; connecting NC pins to a copper area for heat dissipation provides a small improvement in thermal performance.", 16 GND (power) "Ground. The exposed backside of the package is an electrical connection for GND. As such, to ensure optimum device operation and thermal performance, the exposed pad must be connected directly to Pin 5/Pin 6 on the PC board.", 17 EP (power) "Ground. The exposed backside of the package is an electrical connection for GND. As such, to ensure optimum device operation and thermal performance, the exposed pad must be connected directly to Pin 5/Pin 6 on the PC board."